# EAGLE library part EFR32BG13P732F512GM48-D (library EFR32BG13P732F512GM48-D)
SILICON LABS - EFR32BG13P732F512GM48-D - Microcontroller Application Specific, EFR32BG Series, ARM Cortex-M4, 32bit, 512KB, 40MHz, QFN-48 Source: Datasheet <https://www.silabs.com/documents/public/data-sheets/efr32bg13-datasheet.pdf>
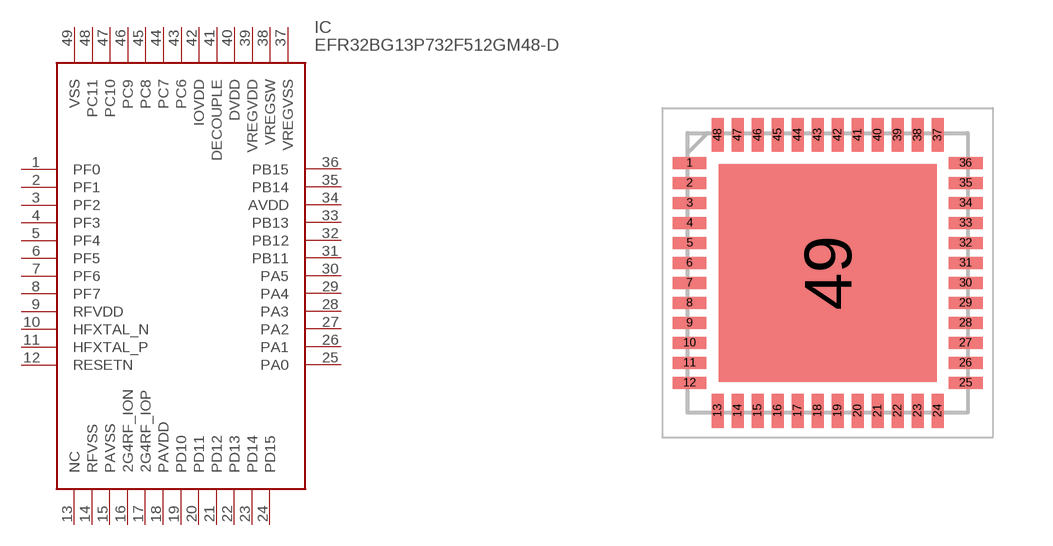
[diagram p0: symbol with the pads of QFN50P700X700X90-49N; footprint QFN50P700X700X90-49N]

Designator prefix IC

## EFR32BG13P732F512GM48-D (Description: SILICON LABS - EFR32BG13P732F512GM48-D - Microcontroller Application Specific, EFR32BG Series, ARM Cortex-M4, 32bit, 512KB, 40MHz, QFN-48; Height: 0.9mm; Manufacturer_Name: Silicon Labs; Manufacturer_Part_Number: EFR32BG13P732F512GM48-D; Mouser_Part_Number: 634-BGP732F512GM48D; Mouser_Price-Stock: https://www.mouser.co.uk/ProductDetail/Silicon-Labs/EFR32BG13P732F512GM48-D?qs=EBDBlbfErPyfv1N%2F5J4IXA%3D%3D)  [QFN50P700X700X90-49N]
1  PF0
2  PF1
3  PF2
4  PF3
5  PF4
6  PF5
7  PF6
8  PF7
9  RFVDD
10  HFXTAL_N
11  HFXTAL_P
12  RESETN
13  NC  nc
14  RFVSS
15  PAVSS
16  2G4RF_ION
17  2G4RF_IOP
18  PAVDD
19  PD10
20  PD11
21  PD12
22  PD13
23  PD14
24  PD15
25  PA0
26  PA1
27  PA2
28  PA3
29  PA4
30  PA5
31  PB11
32  PB12
33  PB13
34  AVDD
35  PB14
36  PB15
37  VREGVSS
38  VREGSW
39  VREGVDD
40  DVDD
41  DECOUPLE
42  IOVDD
43  PC6
44  PC7
45  PC8
46  PC9
47  PC10
48  PC11
49  VSS

## Footprint QFN50P700X700X90-49N (pad centres in mm)
QFN-48
smd 0.85 x 0.3: 1 -3.45,2.75; 2 -3.45,2.25; 3 -3.45,1.75; 4 -3.45,1.25; 5 -3.45,0.75; 6 -3.45,0.25; 7 -3.45,-0.25; 8 -3.45,-0.75; 9 -3.45,-1.25; 10 -3.45,-1.75; 11 -3.45,-2.25; 12 -3.45,-2.75; 25 3.45,-2.75; 26 3.45,-2.25; 27 3.45,-1.75; 28 3.45,-1.25; 29 3.45,-0.75; 30 3.45,-0.25; 31 3.45,0.25; 32 3.45,0.75; 33 3.45,1.25; 34 3.45,1.75; 35 3.45,2.25; 36 3.45,2.75
smd 0.3 x 0.85: 13 -2.75,-3.45; 14 -2.25,-3.45; 15 -1.75,-3.45; 16 -1.25,-3.45; 17 -0.75,-3.45; 18 -0.25,-3.45; 19 0.25,-3.45; 20 0.75,-3.45; 21 1.25,-3.45; 22 1.75,-3.45; 23 2.25,-3.45; 24 2.75,-3.45; 37 2.75,3.45; 38 2.25,3.45; 39 1.75,3.45; 40 1.25,3.45; 41 0.75,3.45; 42 0.25,3.45; 43 -0.25,3.45; 44 -0.75,3.45; 45 -1.25,3.45; 46 -1.75,3.45; 47 -2.25,3.45; 48 -2.75,3.45
smd 5.45 x 5.45: 49 0,0